# Altium schematic symbol library ISENSIOT.SchLib: 8 symbols
Pins are listed as number, name and electrical type; pins without a type are passive.

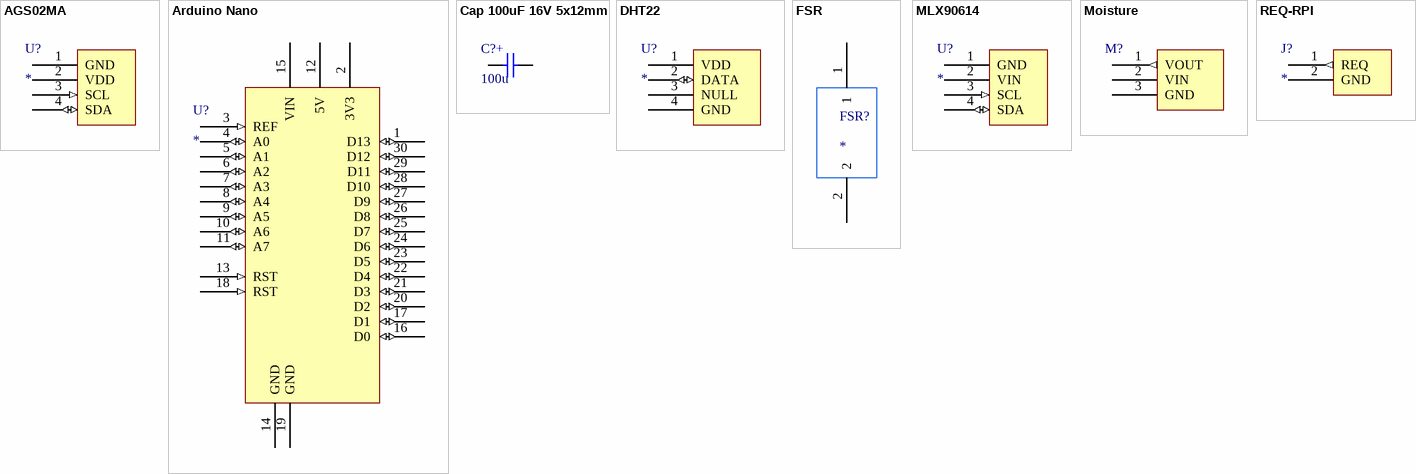
[diagram p0: symbols AGS02MA to REQ-RPI]

## AGS02MA
designator U?
footprint JST-XH 4PIN
pins: 1 GND (power), 2 VDD (power), 3 SCL (in), 4 SDA (io)

## Arduino Nano
designator U?
Arduino Nano
footprint Arduino Nano
pins: 1 D13 (io), 2 3V3 (power), 3 REF (in), 4 A0 (io), 5 A1 (io), 6 A2 (io), 7 A3 (io), 8 A4 (io), 9 A5 (io), 10 A6 (io), 11 A7 (io), 12 5V (power), 13 RST (in), 14 GND (power), 15 VIN (power), 16 D0 (io), 17 D1 (io), 18 RST (in), 19 GND (power), 20 D2 (io), 21 D3 (io), 22 D4 (io), 23 D5 (io), 24 D6 (io), 25 D7 (io), 26 D8 (io), 27 D9 (io), 28 D10 (io), 29 D11 (io), 30 D12 (io)

## Cap 100uF 16V 5x12mm
designator C?, comment 100u
Cap 100uF 16V 5x12mm; value: 100u
footprint Cap 100uF 16V 5x12mm
pins: 1, 2
text: +

## DHT22
designator U?
https://www.tinytronics.nl/en/sensors/air/humidity/dht22-thermometer-temperature-and-humidity-sensor
footprint JST-XH 4PIN
pins: 1 VDD (power), 2 DATA (io), 3 NULL (hiz), 4 GND (power)

## FSR
designator FSR?
2 pin JST connector
footprint JST-XH 2pin
pins: 1, 2

## MLX90614
designator U?
https://www.tinytronics.nl/en/sensors/temperature/non-contact-ir-temperature-sensor-module-mlx90614-baa-90
footprint JST-XH 4PIN
pins: 1 GND (power), 2 VIN (power), 3 SCL (in), 4 SDA (io)

## Moisture
designator M?
footprint JST-XH 3PIN
pins: 1 VOUT (out), 2 VIN (power), 3 GND (power)

## REQ-RPI
designator J?
Request connection to Raspberry Pi
footprint JST-XH 2pin
pins: 1 REQ (out), 2 GND (power)